# Altium footprint library Sound Speaker.PcbLib: 1 footprints
Each footprint in its own frame and in the unit in brackets; x right, y up, seen from the top. Pads: shape width x height; smd on the part's side, far side on the other; paste and mask are expansions set on the pad; w line width, h text height; cw(c..) or ccw(c..) is an arc to the next point about the centre after c.
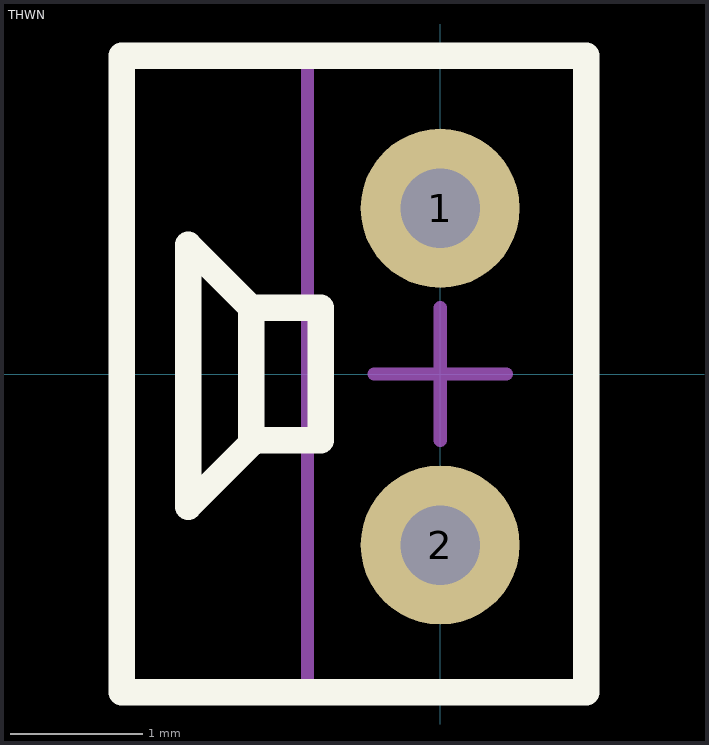
[diagram p0: the footprint, top view; thin cyan lines are the x and y axes]

## THWN [mm] "Speaker wires"
pads (2):
  round 1.2 hole 0.6: 1(0,1.25) 2(0,-1.29)
Top Overlay:
  lines w0.2: -1.425,-0.525 -1.9,-1 -1.9,0.975 -1.425,0.5 ; -1.425,0.5 -1.425,-0.5 -0.9,-0.5 -0.9,0.5 -1.425,0.5 ; -2.4,-2.4 -2.4,2.4 1.1,2.4 1.1,-2.4 -2.4,-2.4
Top Package:
  circle w0.1: c0,1.25 r0.4
  circle w0.1: c0,-1.29 r0.4
  lines w0.1: -1.425,-0.525 -1.9,-1 -1.9,0.975 -1.425,0.5 ; -1.425,0.5 -0.9,0.5 -0.9,-0.5 -1.425,-0.5 -1.425,0.5
Top Border:
  lines w0.1: -0.5,0 0.5,0 ; 0,-0.5 0,0.5 ; -1,-2.4 -1,2.4 1.1,2.4 1.1,-2.4 -1,-2.4